# Altium footprint library JAE.PcbLib: 2 footprints
Each footprint in its own frame and in the unit in brackets; x right, y up, seen from the top. Pads: shape width x height; smd on the part's side, far side on the other; paste and mask are expansions set on the pad; w line width, h text height; cw(c..) or ccw(c..) is an arc to the next point about the centre after c.
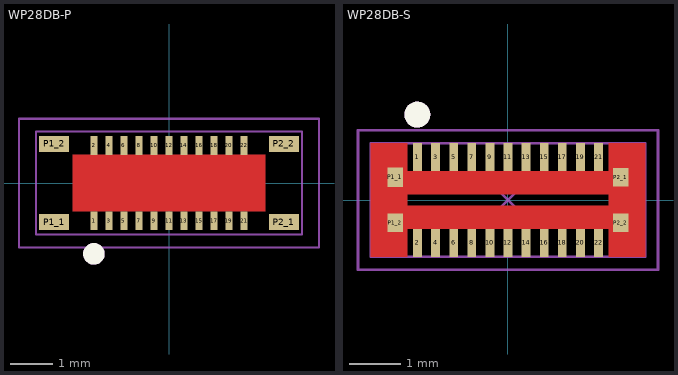
[diagram p0: the footprints below, top view; thin cyan lines are the x and y axes]

## WP28DB-P [mm]
pads (26):
  rect 0.17x0.44 smd mask+0.05: 1(-1.75,-0.88) 2(-1.75,0.88) 3(-1.4,-0.88) 4(-1.4,0.88) 5(-1.05,-0.88) 6(-1.05,0.88) 7(-0.7,-0.88) 8(-0.7,0.88) 9(-0.35,-0.88) 10(-0.35,0.88) 11(0,-0.88) 12(0,0.88) 13(0.35,-0.88) 14(0.35,0.88) 15(0.7,-0.88) 16(0.7,0.88) 17(1.05,-0.88) 18(1.05,0.88) 19(1.4,-0.88) 20(1.4,0.88) 21(1.75,-0.88) 22(1.75,0.88)
  rect 0.7x0.375 smd mask+0.05: P1_1(-2.68,-0.913) P1_2(-2.68,0.913) P2_1(2.68,-0.913) P2_2(2.68,0.913)
Top Layer:
  pour cut-out: -2.25,0.66 2.25,0.66 2.25,-0.66 -2.25,-0.66
Top Overlay:
  circle w0.25: c-1.753,-1.651 r0.125
Top Assembly:
  circle w0.25: c-1.753,-1.651 r0.125
  lines w0.05: -3.1,-1.2 3.1,-1.2 3.1,1.2 -3.1,1.2 -3.1,-1.2
  text ".Designator" at -3.434,-0.345 h1.52
Top Courtyard:
  lines w0.05: -0.127,-0.127 0.127,0.127 ; -0.127,0.127 0.127,-0.127 ; -3.5,-1.5 3.5,-1.5 3.5,1.5 -3.5,1.5 -3.5,-1.5

## WP28DB-S [mm] "Connector Receptacle"
pads (26):
  rect 0.17x0.54 smd mask+0.05: 1(-1.75,0.83) 2(-1.75,-0.83) 3(-1.4,0.83) 4(-1.4,-0.83) 5(-1.05,0.83) 6(-1.05,-0.83) 7(-0.7,0.83) 8(-0.7,-0.83) 9(-0.35,0.83) 10(-0.35,-0.83) 11(0,0.83) 12(0,-0.83) 13(0.35,0.83) 14(0.35,-0.83) 15(0.7,0.83) 16(0.7,-0.83) 17(1.05,0.83) 18(1.05,-0.83) 19(1.4,0.83) 20(1.4,-0.83) 21(1.75,0.83) 22(1.75,-0.83)
  rect 0.3x0.38 smd mask+0.05: P1_1(-2.18,0.44)
  rect 0.3x0.357 smd mask+0.05: P1_2(-2.18,-0.44) P2_1(2.18,0.44) P2_2(2.18,-0.44)
Top Layer:
  pour cut-out: -1.95,-0.11 1.95,-0.11 1.95,-0.56 -1.95,-0.56
  pour cut-out: 1.95,0.56 1.95,0.11 -1.95,0.11 -1.95,0.56
  pour cut-out: -2.65,1.1 -1.95,1.1 -1.95,-1.1 -2.65,-1.1
  pour cut-out: 1.95,1.1 2.65,1.1 2.65,-1.1 1.95,-1.1
Top Overlay:
  circle w0.25: c-1.753,1.651 r0.125
Top Assembly:
  circle w0.25: c-1.753,1.651 r0.125
  lines w0.05: -2.65,-1.1 2.65,-1.1 2.65,1.1 -2.65,1.1 -2.65,-1.1
  text ".Designator" at -3.434,-0.345 h1.52
Top Courtyard:
  lines w0.05: -0.127,-0.127 0.127,0.127 ; -0.127,0.127 0.127,-0.127 ; -2.9,-1.35 2.9,-1.35 2.9,1.35 -2.65,1.35 -2.9,1.35 -2.9,-1.35